# EAGLE library part EXPANSION_PORT_TI74 (library ti-cc40-74-95)
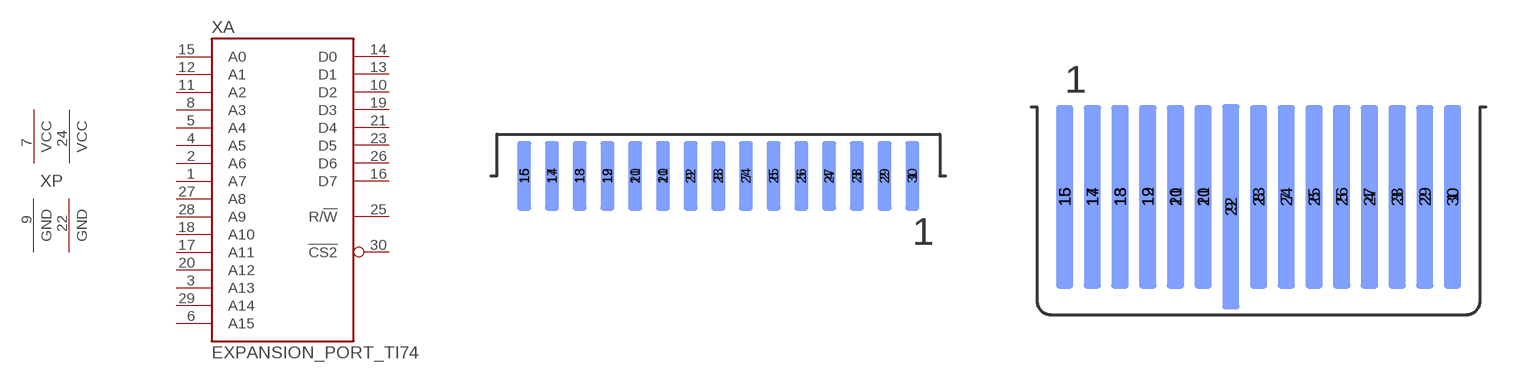
[diagram p4: symbol with the pads of FE15-2(.050)SHORT; footprints FE15-2(.050)SHORT, MA15-2(.050)]

Designator prefix X; gates A=EXPANSION_PORT_TI74 P=PWR2-GND2

## EXPANSION_PORT_TI74C  [FE15-2(.050)SHORT]
1  A:A7
2  A:A6
3  A:A13
4  A:A5
5  A:A4
6  A:A15
7  P:VCC  pwr
8  A:A3
9  P:GND  pwr
10  A:D2
11  A:A2
12  A:A1
13  A:D1
14  A:D0
15  A:A0
16  A:D7
17  A:A11
18  A:A10
19  A:D3
20  A:A12
21  A:D4
22  P:GND  pwr
23  A:D5
24  P:VCC_RAM  pwr
25  A:R/!W
26  A:D6
27  A:A8
28  A:A9
29  A:A14
30  A:!CS2

## EXPANSION_PORT_TI74  [MA15-2(.050)]
Pads as for FE15-2(.050)SHORT

## Footprint FE15-2(.050)SHORT (pad centres in mm)
smd 0.635 x 3.175: 1 8.89,0; 2 7.62,0; 3 6.35,0; 4 5.08,0; 5 3.81,0; 6 2.54,0; 7 1.27,0; 8 0,0; 9 -1.27,0; 10 -2.54,0; 11 -3.81,0; 12 -5.08,0; 13 -6.35,0; 14 -7.62,0; 15 -8.89,0
smd 0.635 x 3.175 bottom: 16 -8.89,0; 17 -7.62,0; 18 -6.35,0; 19 -5.08,0; 20 -3.81,0; 21 -2.54,0; 22 -1.27,0; 23 0,0; 24 1.27,0; 25 2.54,0; 26 3.81,0; 27 5.08,0; 28 6.35,0; 29 7.62,0; 30 8.89,0

## Footprint MA15-2(.050) (pad centres in mm)
smd 0.8 x 8.42: 1 8.89,0.953; 2 7.62,0.953; 3 6.35,0.953; 4 5.08,0.953; 5 3.81,0.953; 6 2.54,0.953; 7 1.27,0.953; 8 0,0.953; 10 -2.54,0.953; 11 -3.81,0.953; 12 -5.08,0.953; 13 -6.35,0.953; 14 -7.62,0.953; 15 -8.89,0.953
smd 0.8 x 9.42: 9 -1.27,0.5
smd 0.8 x 8.42 bottom: 16 -8.89,0.953; 17 -7.62,0.953; 18 -6.35,0.953; 19 -5.08,0.953; 20 -3.81,0.953; 21 -2.54,0.953; 23 0,0.953; 24 1.27,0.953; 25 2.54,0.953; 26 3.81,0.953; 27 5.08,0.953; 28 6.35,0.953; 29 7.62,0.953; 30 8.89,0.953
smd 0.8 x 9.42 bottom: 22 -1.27,0.5